# EAGLE library part 692121430000 (library Wurth-USB)
WR-COM USB 3.0 Vertical Type A Receptacle Through hole=>Code : Con_I-O_COM_USB-3.0_A_692121430000 <http://katalog.we-online.de/media/images/eican/Con_I-O_COM_USB-3.0_A_692121430000_pf2.jpg> Details see: http://katalog.we-online.de/en/em/COM_3_0_THT_TYPE_A_VERTICAL/692121430000 Created 2014-07-09, Karrer Zheng 2014 (C) Würth Elektronik
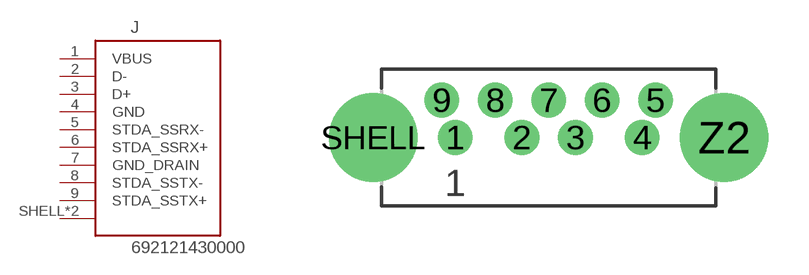
[diagram p139: symbol with the pads of 692121430000; footprint 692121430000]

Designator prefix J

## 692121430000  [692121430000]
1  VBUS
2  D-
3  D+
4  GND
5  STDA_SSRX-
6  STDA_SSRX+
7  GND_DRAIN
8  STDA_SSTX-
9  STDA_SSTX+
SHELL  SHIELD
Z2  SHIELD

## Footprint 692121430000 (pad centres in mm)
WR-COM USB 3.0 Vertical Type A Receptacle Through hole
drill 0.7 pad 1.3: 1 -3.5,0; 2 -1,0; 3 1,0; 4 3.5,0; 5 4,1.4; 6 2,1.4; 7 0,1.4; 8 -2,1.4; 9 -4,1.4
drill 2.3: SHELL -6.57,0; Z2 6.57,0